# EAGLE library part NC7SB3157P6X (library UPenn)
SPDT analog switch, B0 is NC
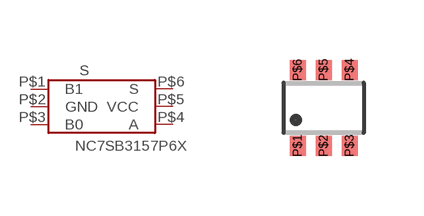
[diagram p6: symbol with the pads of 1.25MM_6PIN; footprint 1.25MM_6PIN]

Designator prefix S

## NC7SB3157P6X  [1.25MM_6PIN]
P$1  B1
P$2  GND
P$3  B0
P$4  A
P$5  VCC
P$6  S

## Footprint 1.25MM_6PIN (pad centres in mm)
smd 0.4 x 0.5: P$1 -0.65,-0.95; P$2 0,-0.95; P$3 0.65,-0.95; P$4 0.65,0.95; P$5 0,0.95; P$6 -0.65,0.95